# Altium schematic symbol library FC.SchLib: 18 symbols
Pins are listed as number, name and electrical type; pins without a type are passive.

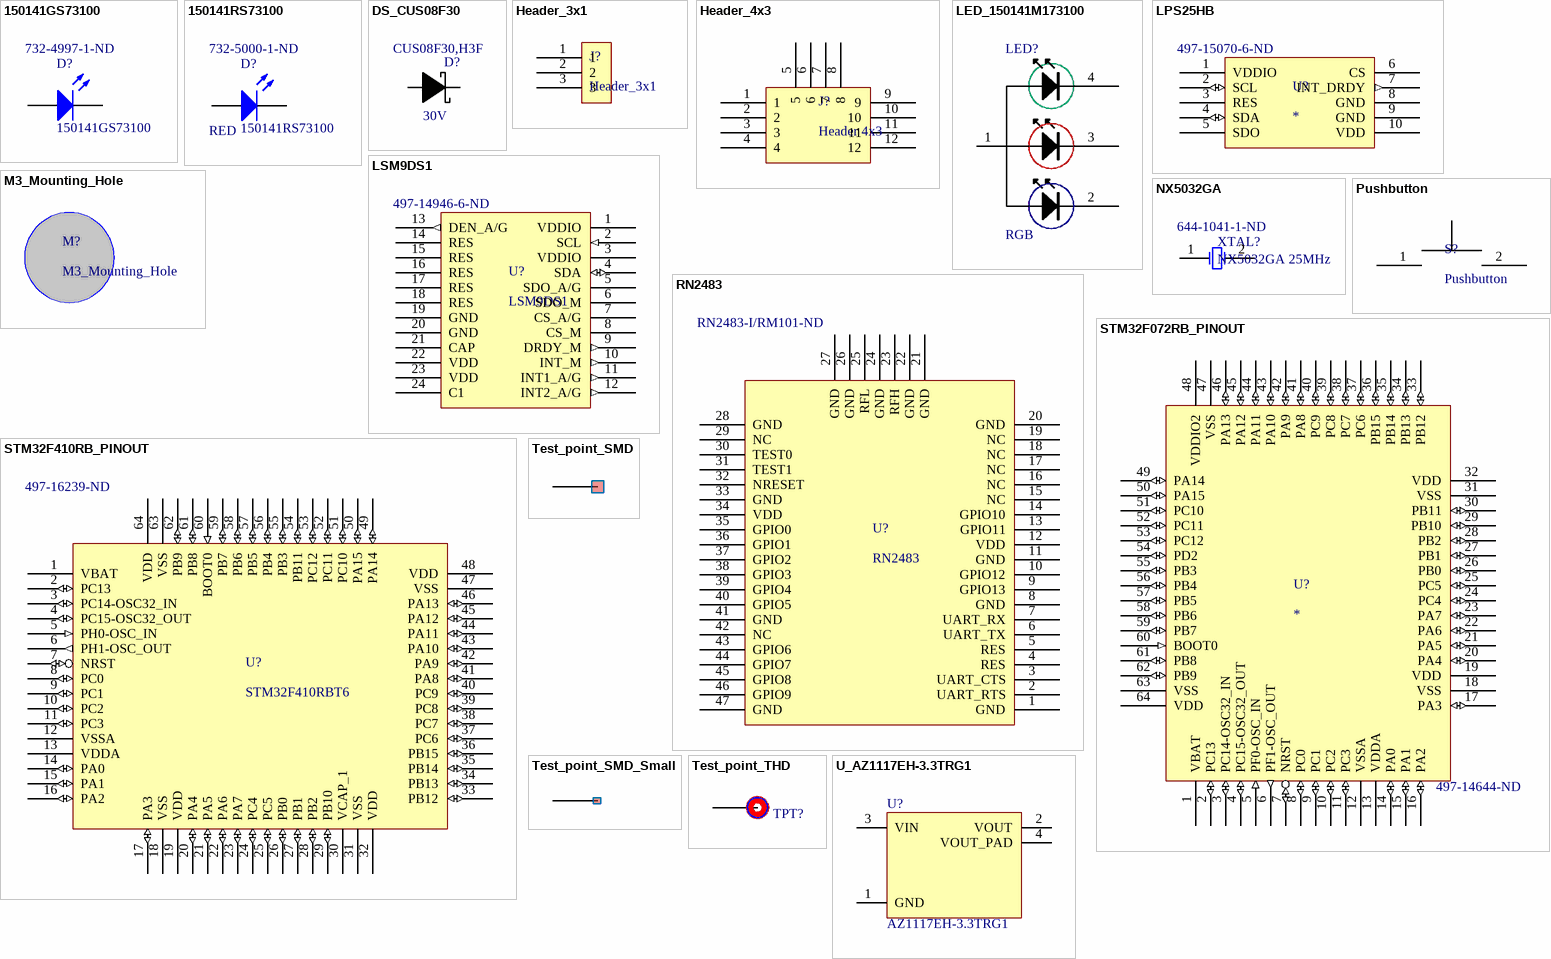
[diagram p0: symbols 150141GS73100 to U_AZ1117EH-3.3TRG1]

## 150141GS73100
designator D?  Supplier Part Number 1: 732-4997-1-ND
Typical GREEN LED; Manufacturer: Würth Elektronik (Wuerth Elektronik); Luminous Intensity: 1000; Viewing Angle: 120; Forward Voltage: 3.1; Lens Style: Round,Clear; Wavelength: 525; Forward Current: 30; Test Current: 20; Supplier 1: Digikey; Manufacturer Part Number: 150141GS73100; Stock 1: 572; Pricing 1: 1=0.17, 100=0.149, 500=0.113 (USD); Case/Package: 1411; Colour: Green; Case Code (Metric): 3528; Case Code (Imperial): 1411; Min Operating Temperature: -40; Max Operating Temperature: 85; Packaging: Cut Tape; Package Quantity: 2000; Dominant Wavelength: 525; Length: 3.5; Height: 1.9; Width: 2.8; REACH SVHC: Unknown; Lead Free: Lead Free; ComponentLink1URL: https://datasheet.ciiva.com/23843/150141gs73100-23843266.pdf; ComponentLink1Description: https://datasheet.ciiva.com/23843/150141gs73100-23843266.pdf; ComponentLink2URL: https://datasheet.ciiva.com/22656/1911484-22656997.pdf; ComponentLink2Description: https://datasheet.ciiva.com/22656/1911484-22656997.pdf; ComponentLink3URL: https://datasheet.ciiva.com/29563/150141gs73100-29563029.pdf; ComponentLink3Description: https://datasheet.ciiva.com/29563/150141gs73100-29563029.pdf; ComponentLink4URL: https://datasheet.ciiva.com/29563/150141gs73100-29563030.pdf; ComponentLink4Description: https://datasheet.ciiva.com/29563/150141gs73100-29563030.pdf; ComponentLink5URL: https://datasheet.ciiva.com/48430/150141gs73100-eng-tds-48430060.pdf; ComponentLink5Description: https://datasheet.ciiva.com/48430/150141gs73100-eng-tds-48430060.pdf; ComponentLink6URL: https://datasheet.ciiva.com/29278/759463-da-01-en-smd-topled-einf-gruen-150141gs73100-29278953.pdf; ComponentLink6Description: https://datasheet.ciiva.com/29278/759463-da-01-en-smd-topled-einf-gruen-150141gs73100-29278953.pdf
footprint 150141RS73100 (SMT LED; 1411)
pins: 1 A, 2 K

## 150141RS73100
designator D?  Colour: RED  Supplier Part Number 2: 732-5000-1-ND
Typical RED LED; Manufacturer: Würth Elektronik (Wuerth Elektronik); Luminous Intensity: 300; Viewing Angle: 120; Forward Voltage: 2; Lens Style: Round,Clear; Wavelength: 625; Forward Current: 30; Test Current: 20; Published: 8-Jun-2000; LatestRevisionDate: 17-Jul-2002; LatestRevisionNote: Re-released for DXP Platform.; PackageDocument: Feb-2002; PackageReference: 3.2X1.6X1.1; Publisher: Altium Limited; Supplier 1: Digi-Key; Supplier 2: Digikey; Manufacturer Part Number: 150141RS73100; Stock 2: 5335; Pricing 2: 1=0.17, 100=0.149, 500=0.113 (USD); Case/Package: 1411; Case Code (Metric): 3528; Case Code (Imperial): 1411; Min Operating Temperature: -40; Max Operating Temperature: 85; Package Quantity: 2000; Packaging: Tape and Reel; Dominant Wavelength: 625; Length: 3.5; Height: 1.9; Width: 2.8; REACH SVHC: Unknown; ComponentLink1URL: https://datasheet.ciiva.com/29562/150141rs73100-29562993.pdf; ComponentLink1Description: https://datasheet.ciiva.com/29562/150141rs73100-29562993.pdf; ComponentLink2URL: https://datasheet.ciiva.com/29563/150141rs73100-29563031.pdf; ComponentLink2Description: https://datasheet.ciiva.com/29563/150141rs73100-29563031.pdf; ComponentLink3URL: https://datasheet.ciiva.com/29563/150141rs73100-29563032.pdf; ComponentLink3Description: https://datasheet.ciiva.com/29563/150141rs73100-29563032.pdf; ComponentLink4URL: https://datasheet.ciiva.com/29278/759464-da-01-en-smd-topled-einf-rot-150141rs73100-29278947.pdf; ComponentLink4Description: https://datasheet.ciiva.com/29278/759464-da-01-en-smd-topled-einf-rot-150141rs73100-29278947.pdf
footprint 150141RS73100 (SMT LED; 1411)
pins: 1 A, 2 K

## DS_CUS08F30
designator D?, comment Voltage - DC Reverse (Vr) (Max): 30V  Manufacturer Part Number: CUS08F30,H3F  (hidden comment: Schottky Diode)
Diode Schottky 30V 800mA (DC) Surface Mount SOD-323; Manufacturer: Toshiba Semiconductor and Storage; Voltage - Forward (Vf) (Max) @ If: 220mV @ 10mA; Speed: Fast Recovery =< 500ns, > 200mA (Io); Current - Reverse Leakage @ Vr: 50µA @ 30V; Capacitance @ Vr, F: 170pF @ 0V, 1MHz; Packaging: Cut Tape (CT); Part Status: Active; Diode Type: Schottky; Current - Average Rectified (Io): 800mA; Reverse Recovery Time (trr): -; Mounting Type: Surface Mount; Package / Case: SC-76, SOD-323; Supplier Device Package: USC; Operating Temperature - Junction: 125°C (Max); ComponentLink1URL: https://toshiba.semicon-storage.com/info/docget.jsp?did=9019&prodName=CUS08F30; ComponentLink1Description: https://toshiba.semicon-storage.com/info/docget.jsp?did=9019&prodName=CUS08F30; Supplier 1: Digi-Key; Supplier Part Number 1: CUS08F30H3FCT-ND; RoHS: RoHS Compliant; Category: Discrete Semiconductor Products; Stock 1: 5288; Pricing 1: 1=0.49, 10=0.448, 25=0.3224, 100=0.2508, 250=0.15764, 500=0.13438, 1000=0.09138 (CAD)
footprint SOD323
pins: 1 CA "Cathode", 2 AN "Anode"

## Header_3x1
designator J?
footprint Header_3x1
pins: 1 (power), 2 (power), 3 (power)

## Header_4x3
designator J?, comment Header 4x3
footprint Header_4x3
pins: 1 (power), 2 (power), 3 (power), 4 (power), 5 (power), 6 (power), 7 (power), 8 (power), 9 (power), 10 (power), 11 (power), 12 (power)

## LED_150141M173100
designator LED?, comment RGB
Wurth RGB LED 1411 pkg; Manufacturer: Wurth Electronics Inc; Manufacturer Part Number: 150141M173100; Color: Red, Green, Blue (RGB); Lens Color: Colorless; Lens Transparency: Clear; Millicandela Rating: 270mcd Red, 950mcd Green, 230mcd Blue; Lens Style/Size: Round with Flat Top, 2.40mm; Voltage - Forward (Vf) (Typ): 2V Red, 3.2V Green, 3.2V Blue; Current - Test: 20mA Red, 20mA Green, 20mA Blue; Viewing Angle: 120°; Wavelength - Dominant: 625nm Red, 520nm Green, 470nm Blue; Wavelength - Peak: 635nm Red, 515nm Green, 465nm Blue; Supplier 1: Digi-Key; Supplier Part Number 1: 732-4998-1-ND; RoHS: RoHS Compliant; Category: Optoelectronics; Stock 1: 986; Pricing 1: 1=0.95, 50=0.8294, 100=0.7583, 500=0.68724, 1000=0.63984 (CAD); Packaging: Cut Tape (CT); Mounting Type: Surface Mount; Features: -; Package / Case: 1411 (3528 Metric); Supplier Device Package: 3528; Size / Dimension: 3.50mm L x 2.80mm W; Height (Max): 2.10mm; ComponentLink1URL: http://katalog.we-online.de/led/datasheet/150141M173100.pdf; ComponentLink1Description: http://katalog.we-online.de/led/datasheet/150141M173100.pdf
footprint 1411LED (RGB LED 4 leads)
pins: 1, 2, 3, 4

## LPS25HB
designator U?  Supplier Part Number 1: 497-15070-6-ND
Manufacturer: STMicroelectronics; Manufacturer Part Number: LPS25HBTR; Operating Pressure: 18.27; Port Style: No Port; Max Pressure: 290.08; Min Supply Voltage: 1.7; Max Supply Voltage: 3.6; Supplier 1: Digikey; Stock 1: 0; Pricing 1: 1=3.25, 10=2.917, 100=2.3901 (USD); Mount: Surface Mount; Number of Pins: 10; Contact Plating: Nickel,Gold; Min Operating Temperature: -30; Max Operating Temperature: 105; Termination: Solder; REACH SVHC: No SVHC; Lead Free: Lead Free; ComponentLink1URL: http://www.farnell.com/datasheets/1992925.pdf; ComponentLink1Description: http://www.farnell.com/datasheets/1992925.pdf; ComponentLink2URL: http://www.st.com/st-web-ui/static/active/en/resource/technical/document/datasheet/DM00141379.pdf; ComponentLink2Description: http://www.st.com/st-web-ui/static/active/en/resource/technical/document/datasheet/DM00141379.pdf
footprint HLGA-10L - narrow
pins: 1 VDDIO (power), 2 SCL (io), 3 RES (power), 4 SDA (io), 5 SDO (power), 6 CS (power), 7 INT_DRDY (out), 8 GND (power), 9 GND (power), 10 VDD (power)

## LSM9DS1
designator U?  Supplier Part Number 1: 497-14946-6-ND
Manufacturer: STMicroelectronics; Manufacturer Part Number: LSM9DS1TR; Min Supply Voltage: 1.9; Max Supply Voltage: 3.6; Supplier 1: Digikey; Stock 1: 6141; Pricing 1: 1=6.4, 10=5.751, 100=4.7119 (USD); Case/Package: LGA; Number of Pins: 24; Min Operating Temperature: -40; Max Operating Temperature: 85; Packaging: Cut Tape; REACH SVHC: No SVHC; Lead Free: Lead Free; ComponentLink1URL: http://www.farnell.com/datasheets/2028150.pdf; ComponentLink1Description: http://www.farnell.com/datasheets/2028150.pdf
footprint LGA-24 - NARROW - Long Pads
pins: 1 VDDIO (power), 2 SCL (in), 3 VDDIO (power), 4 SDA (io), 5 SDO_A/G (power), 6 SDO_M (power), 7 CS_A/G (power), 8 CS_M (power), 9 DRDY_M (out), 10 INT_M (out), 11 INT1_A/G (out), 12 INT2_A/G (out), 13 DEN_A/G (out), 14 RES (power), 15 RES (power), 16 RES (power), 17 RES (power), 18 RES (power), 19 GND (power), 20 GND (power), 21 CAP (power), 22 VDD (power), 23 VDD (power), 24 C1 (power)

## M3_Mounting_Hole
designator M?
footprint M3_Mounting_Hole

## NX5032GA
designator XTAL?, comment NX5032GA 25MHz  Supplier Part Number 1: 644-1041-1-ND
NX5032GA; Manufacturer: Nihon Dempa Kogyo (NDK); Manufacturer Part Number: NX5032GA-25.000000MHZ-LN-CD-1; Frequency: 25; Frequency Tolerance: 50; Load Capacitance: 8; ESR (Equivalent Series Resistance): 70; Supplier 1: Digikey; Stock 1: 128038; Pricing 1: 1=0.66, 10=0.55, 50=0.495, 100=0.44, 500=0.418 (USD); Case/Package: SMD/SMT; Number of Pins: 2; Min Operating Temperature: -10; Max Operating Temperature: 70; Packaging: Tape and Reel; Frequency Stability: 50; Package Quantity: 1000; Length: 0.197; Height: 0.059; Width: 0.126; ComponentLink1URL: https://datasheet.ciiva.com/856/nx5032ga-856797.pdf; ComponentLink1Description: https://datasheet.ciiva.com/856/nx5032ga-856797.pdf; ComponentLink2URL: https://datasheet.ciiva.com/856/nx5032ga-856798.pdf; ComponentLink2Description: https://datasheet.ciiva.com/856/nx5032ga-856798.pdf; ComponentLink3URL: https://datasheet.ciiva.com/856/nx5032ga-856799.pdf; ComponentLink3Description: https://datasheet.ciiva.com/856/nx5032ga-856799.pdf
footprint NX5032GA (NX5032GA Crystal Oscillator)
pins: 1 OSC1, 2 OSC2

## Pushbutton
designator S?
footprint TactileSwitch
pins: 1 (power), 2 (power)

## RN2483
designator U?  Supplier Part Number 1: RN2483-I/RM101-ND
Manufacturer: Microchip Technology; Manufacturer Part Number: RN2483-I/RM101; Frequency: 868; Data Rate: 300; Min Supply Voltage: 2.1; Max Supply Voltage: 3.6; Nominal Supply Current: 38.9; Sensitivity: -146; Interface: I2C,SPI,UART; Current - Receiving: 14.3; Current - Transmitting: 39; Supplier 1: Digikey; Stock 1: 692; Pricing 1: 1=14.7, 25=13.4724, 100=13.0553 (USD); Case/Package: Module; Min Operating Temperature: -40; Max Operating Temperature: 85; Max Frequency: 868; Packaging: Tray; REACH SVHC: No SVHC; Lead Free: Lead Free; ComponentLink1URL: http://www.farnell.com/datasheets/1947946.pdf; ComponentLink1Description: http://www.farnell.com/datasheets/1947946.pdf; ComponentLink2URL: http://www.farnell.com/datasheets/2140371.pdf; ComponentLink2Description: http://www.farnell.com/datasheets/2140371.pdf
footprint RN2483
pins: 1 GND (power), 2 UART_RTS (power), 3 UART_CTS (power), 4 RES (power), 5 RES (power), 6 UART_TX (power), 7 UART_RX (power), 8 GND (power), 9 GPIO13 (power), 10 GPIO12 (power), 11 GND (power), 12 VDD (power), 13 GPIO11 (power), 14 GPIO10 (power), 15 NC (power), 16 NC (power), 17 NC (power), 18 NC (power), 19 NC (power), 20 GND (power), 21 GND (power), 22 GND (power), 23 RFH (power), 24 GND (power), 25 RFL (power), 26 GND (power), 27 GND (power), 28 GND (power), 29 NC (power), 30 TEST0 (power), 31 TEST1 (power), 32 NRESET (power), 33 GND (power), 34 VDD (power), 35 GPIO0 (power), 36 GPIO1 (power), 37 GPIO2 (power), 38 GPIO3 (power), 39 GPIO4 (power), 40 GPIO5 (power), 41 GND (power), 42 NC (power), 43 GPIO6 (power), 44 GPIO7 (power), 45 GPIO8 (power), 46 GPIO9 (power), 47 GND (power)

## STM32F072RB_PINOUT
designator U?  Supplier Part Number 1: 497-14644-ND
64-LQFP - Pinout Representation; Supplier 1: Digi-Key
footprint LQFP-64 10x10mm (LQFP-64 10x10mm 0.5mm pitch)
pins: 1 VBAT (power) "Backup power supply", 2 PC13 (io) "WKUP2, RTC_TAMP1, RTC_TS, RTC_OUT", 3 PC14-OSC32_IN (io) "OSC32_IN", 4 PC15-OSC32_OUT (io) "OSC32_OUT", 5 PF0-OSC_IN (in) "OSC_IN", 6 PF1-OSC_OUT (out) "OSC_OUT", 7 NRST (io) "Device reset input / internal reset output (active low)", 8 PC0 (io) "EVENTOUT, ADC_IN10", 9 PC1 (io) "EVENTOUT, ADC_IN11", 10 PC2 (io) "SPI2_MISO, I2S2_MCK,  EVENTOUT, ADC_IN12", 11 PC3 (io) "SPI2_MOSI, I2S2_SD,  EVENTOUT, ADC_IN13", 12 VSSA (power) "Analog Ground", 13 VDDA (power) "Analog Power Supply", 14 PA0 (io) "USART2_CTS, TIM2_CH1_ETR, TSC_G1_IO1, USART4_TX, RTC_ TAMP2, WKUP1, COMP1_OUT, ADC_IN0, COMP1_INM6", 15 PA1 (io) "USART2_RTS, TIM2_CH2,  TIM15_CH1N, TSC_G1_IO2, USART4_RX, EVENTOUT, ADC_IN1, COMP1_INP", 16 PA2 (io) "USART2_TX, TIM2_CH3, TIM15_CH1, TSC_G1_IO3, ADC_IN2, COMP2_OUT, COMP2_INM6, WKUP4", 17 PA3 (io) "USART2_RX, TIM2_CH4, TIM15_CH2, TSC_G1_IO4, ADC_IN3, COMP2_INP", 18 VSS (power) "Ground", 19 VDD (power) "Digital Power Supply", 20 PA4 (io) "SPI1_NSS, I2S1_WS, TIM14_CH1, TSC_G2_IO1, USART2_CK, COMP1_INM4, COMP2_INM4, ADC_IN4, DAC_OUT1", 21 PA5 (io) "SPI1_SCK, I2S1_CK, CEC, TIM2_CH1_ETR, TSC_G2_IO2, COMP1_INM5, COMP2_INM5, ADC_IN5, DAC_OUT2", 22 PA6 (io) "SPI1_MISO, I2S1_MCK, TIM3_CH1, TIM1_BKIN, TIM16_CH1, COMP1_OUT, TSC_G2_IO3, EVENTOUT, USART3_CTS, ADC_IN6", 23 PA7 (io) "SPI1_MOSI, I2S1_SD, TIM3_CH2, TIM14_CH1, TIM1_CH1N, TIM17_CH1, COMP2_OUT, TSC_G2_IO4, EVENTOUT, ADC_IN7", 24 PC4 (io) "EVENTOUT, USART3_TX, ADC_IN14", 25 PC5 (io) "TSC_G3_IO1, USART3_RX, ADC_IN15, WKUP5", 26 PB0 (io) "TIM3_CH3, TIM1_CH2N, TSC_G3_IO2, EVENTOUT, USART3_CK, ADC_IN8", 27 PB1 (io) "TIM3_CH4, USART3_RTS, TIM14_CH1, TIM1_CH3N, TSC_G3_IO3, ADC_IN9", 28 PB2 (io) "TSC_G3_IO4", 29 PB10 (io) "SPI2_SCK, I2C2_SCL, USART3_TX, CEC, TSC_SYNC, TIM2_CH3", 30 PB11 (io) "USART3_RX, TIM2_CH4, EVENTOUT, TSC_G6_IO1, I2C2_SDA", 31 VSS (power) "Ground", 32 VDD (power) "Digital Power Supply", 33 PB12 (io) "TIM1_BKIN, TIM15_BKIN, SPI2_NSS, I2S2_WS, USART3_CK, TSC_G6_IO2, EVENTOUT", 34 PB13 (io) "SPI2_SCK, I2S2_CK, I2C2_SCL, USART3_CTS, TIM1_CH1N, TSC_G6_IO3", 35 PB14 (io) "SPI2_MISO, I2S2_MCK, I2C2_SDA, USART3_RTS, TIM1_CH2N, TIM15_CH1, TSC_G6_IO4", 36 PB15 (io) "SPI2_MOSI, I2S2_SD, TIM1_CH3N, TIM15_CH1N, TIM15_CH2", 37 PC6 (io) "TIM3_CH1", 38 PC7 (io) "TIM3_CH2", 39 PC8 (io) "TIM3_CH3", 40 PC9 (io) "TIM3_CH4", 41 PA8 (io) "USART1_CK, TIM1_CH1, EVENTOUT, MCO, CRS_SYNC", 42 PA9 (io) "USART1_TX, TIM1_CH2, TIM15_BKIN, TSC_G4_IO1", 43 PA10 (io) "USART1_RX, TIM1_CH3, TIM17_BKIN, TSC_G4_IO2", 44 PA11 (io) "CAN_RX, USART1_CTS, TIM1_CH4, COMP1_OUT, TSC_G4_IO3, EVENTOUT, USB_DM", 45 PA12 (io) "CAN_TX, USART1_RTS, TIM1_ETR, COMP2_OUT, TSC_G4_IO4, EVENTOUT, USB_DP", 46 PA13 (io) "IR_OUT, SWDIO, USB_NOE", 47 VSS (power) "Ground", 48 VDDIO2 (power) "Digital Power Supply", 49 PA14 (io) "USART2_TX, SWCLK", 50 PA15 (io) "SPI1_NSS, I2S1_WS, USART2_RX, USART4_RTS, TIM2_CH1_ETR, EVENTOUT", 51 PC10 (io) "USART3_TX, USART4_TX", 52 PC11 (io) "USART3_RX, USART4_RX", 53 PC12 (io) "USART3_CK,  USART4_CK", 54 PD2 (io) "USART3_RTS, TIM3_ETR", 55 PB3 (io) "SPI1_SCK, I2S1_CK, TIM2_CH2, TSC_G5_IO1, EVENTOUT", 56 PB4 (io) "SPI1_MISO, I2S1_MCK, TIM17_BKIN, TIM3_CH1, TSC_G5_IO2, EVENTOUT", 57 PB5 (io) "SPI1_MOSI, I2S1_SD, I2C1_SMBA, TIM16_BKIN, TIM3_CH2, WKUP6", 58 PB6 (io) "I2C1_SCL, USART1_TX, TIM16_CH1N, TSC_G5_I03", 59 PB7 (io) "I2C1_SDA, USART1_RX, USART4_CTS, TIM17_CH1N, TSC_G5_IO4", 60 BOOT0 (in) "Boot Memory Selection", 61 PB8 (io) "I2C1_SCL, CEC, TIM16_CH1, TSC_SYNC, CAN_RX", 62 PB9 (io) "SPI2_NSS, I2S2_WS, I2C1_SDA, IR_OUT, TIM17_CH1, EVENTOUT, CAN_TX", 63 VSS "Ground", 64 VDD "Digital Power Supply"

## STM32F410RB_PINOUT
designator U?, comment STM32F410RBT6  Supplier Part Number 1: 497-16239-ND
64-LQFP - Pinout Representation; Manufacturer: STMicroelectronics; Frequency: 100; Interface: I2C,SPI,IrDA,UART,USART,LIN; Number of I/Os: 50; Oscillator Type: Internal; RAM Size: 32; Min Supply Voltage: 1.7; Max Supply Voltage: 3.6; Memory Type: FLASH; Memory Size: 128; Peripherals: Brown-out Detect/Reset,POR,PWM,WDT,DMA; Manufacturer Part Number: STM32F410RBT6; Pricing 2: 1=4.4, 10=3.951, 100=3.237, 500=2.7556, 1000=2.324 (USD); Case/Package: LQFP; Number of Pins: 64; Min Operating Temperature: -40; Max Operating Temperature: 85; Packaging: Tray; REACH SVHC: No SVHC; Lead Free: Lead Free; ComponentLink1URL: http://www.farnell.com/datasheets/2006536.pdf; ComponentLink1Description: http://www.farnell.com/datasheets/2006536.pdf; Supplier 1: Digikey
footprint LQFP-64 10x10mm (LQFP-64 10x10mm 0.5mm pitch)
pins: 1 VBAT (power) "Backup power supply", 2 PC13 (io) "WKUP2, RTC_TAMP1, RTC_TS, RTC_OUT", 3 PC14-OSC32_IN (io) "OSC32_IN", 4 PC15-OSC32_OUT (io) "OSC32_OUT", 5 PH0-OSC_IN (in) "OSC_IN", 6 PH1-OSC_OUT (out) "OSC_OUT", 7 NRST (io) "Device reset input / internal reset output (active low)", 8 PC0 (io) "EVENTOUT, ADC_IN10", 9 PC1 (io) "EVENTOUT, ADC_IN11", 10 PC2 (io) "SPI2_MISO, I2S2_MCK,  EVENTOUT, ADC_IN12", 11 PC3 (io) "SPI2_MOSI, I2S2_SD,  EVENTOUT, ADC_IN13", 12 VSSA (power) "Analog Ground", 13 VDDA (power) "Analog Power Supply", 14 PA0 (io) "USART2_CTS, TIM2_CH1_ETR, TSC_G1_IO1, USART4_TX, RTC_ TAMP2, WKUP1, COMP1_OUT, ADC_IN0, COMP1_INM6", 15 PA1 (io) "USART2_RTS, TIM2_CH2,  TIM15_CH1N, TSC_G1_IO2, USART4_RX, EVENTOUT, ADC_IN1, COMP1_INP", 16 PA2 (io) "USART2_TX, TIM2_CH3, TIM15_CH1, TSC_G1_IO3, ADC_IN2, COMP2_OUT, COMP2_INM6, WKUP4", 17 PA3 (io) "USART2_RX, TIM2_CH4, TIM15_CH2, TSC_G1_IO4, ADC_IN3, COMP2_INP", 18 VSS (power) "Ground", 19 VDD (power) "Digital Power Supply", 20 PA4 (io) "SPI1_NSS, I2S1_WS, TIM14_CH1, TSC_G2_IO1, USART2_CK, COMP1_INM4, COMP2_INM4, ADC_IN4, DAC_OUT1", 21 PA5 (io) "SPI1_SCK, I2S1_CK, CEC, TIM2_CH1_ETR, TSC_G2_IO2, COMP1_INM5, COMP2_INM5, ADC_IN5, DAC_OUT2", 22 PA6 (io) "SPI1_MISO, I2S1_MCK, TIM3_CH1, TIM1_BKIN, TIM16_CH1, COMP1_OUT, TSC_G2_IO3, EVENTOUT, USART3_CTS, ADC_IN6", 23 PA7 (io) "SPI1_MOSI, I2S1_SD, TIM3_CH2, TIM14_CH1, TIM1_CH1N, TIM17_CH1, COMP2_OUT, TSC_G2_IO4, EVENTOUT, ADC_IN7", 24 PC4 (io) "EVENTOUT, USART3_TX, ADC_IN14", 25 PC5 (io) "TSC_G3_IO1, USART3_RX, ADC_IN15, WKUP5", 26 PB0 (io) "TIM3_CH3, TIM1_CH2N, TSC_G3_IO2, EVENTOUT, USART3_CK, ADC_IN8", 27 PB1 (io) "TIM3_CH4, USART3_RTS, TIM14_CH1, TIM1_CH3N, TSC_G3_IO3, ADC_IN9", 28 PB2 (io) "TSC_G3_IO4", 29 PB10 (io) "SPI2_SCK, I2C2_SCL, USART3_TX, CEC, TSC_SYNC, TIM2_CH3", 30 VCAP_1 (power) "USART3_RX, TIM2_CH4, EVENTOUT, TSC_G6_IO1, I2C2_SDA", 31 VSS (power) "Ground", 32 VDD (power) "Digital Power Supply", 33 PB12 (io) "TIM1_BKIN, TIM15_BKIN, SPI2_NSS, I2S2_WS, USART3_CK, TSC_G6_IO2, EVENTOUT", 34 PB13 (io) "SPI2_SCK, I2S2_CK, I2C2_SCL, USART3_CTS, TIM1_CH1N, TSC_G6_IO3", 35 PB14 (io) "SPI2_MISO, I2S2_MCK, I2C2_SDA, USART3_RTS, TIM1_CH2N, TIM15_CH1, TSC_G6_IO4", 36 PB15 (io) "SPI2_MOSI, I2S2_SD, TIM1_CH3N, TIM15_CH1N, TIM15_CH2", 37 PC6 (io) "TIM3_CH1", 38 PC7 (io) "TIM3_CH2", 39 PC8 (io) "TIM3_CH3", 40 PC9 (io) "TIM3_CH4", 41 PA8 (io) "USART1_CK, TIM1_CH1, EVENTOUT, MCO, CRS_SYNC", 42 PA9 (io) "USART1_TX, TIM1_CH2, TIM15_BKIN, TSC_G4_IO1", 43 PA10 (io) "USART1_RX, TIM1_CH3, TIM17_BKIN, TSC_G4_IO2", 44 PA11 (io) "CAN_RX, USART1_CTS, TIM1_CH4, COMP1_OUT, TSC_G4_IO3, EVENTOUT, USB_DM", 45 PA12 (io) "CAN_TX, USART1_RTS, TIM1_ETR, COMP2_OUT, TSC_G4_IO4, EVENTOUT, USB_DP", 46 PA13 (io) "IR_OUT, SWDIO, USB_NOE", 47 VSS (power) "Ground", 48 VDD (power) "Digital Power Supply", 49 PA14 (io) "USART2_TX, SWCLK", 50 PA15 (io) "SPI1_NSS, I2S1_WS, USART2_RX, USART4_RTS, TIM2_CH1_ETR, EVENTOUT", 51 PC10 (io) "USART3_TX, USART4_TX", 52 PC11 (io) "USART3_RX, USART4_RX", 53 PC12 (io) "USART3_CK,  USART4_CK", 54 PB11 (io) "USART3_RTS, TIM3_ETR", 55 PB3 (io) "SPI1_SCK, I2S1_CK, TIM2_CH2, TSC_G5_IO1, EVENTOUT", 56 PB4 (io) "SPI1_MISO, I2S1_MCK, TIM17_BKIN, TIM3_CH1, TSC_G5_IO2, EVENTOUT", 57 PB5 (io) "SPI1_MOSI, I2S1_SD, I2C1_SMBA, TIM16_BKIN, TIM3_CH2, WKUP6", 58 PB6 (io) "I2C1_SCL, USART1_TX, TIM16_CH1N, TSC_G5_I03", 59 PB7 (io) "I2C1_SDA, USART1_RX, USART4_CTS, TIM17_CH1N, TSC_G5_IO4", 60 BOOT0 (in) "Boot Memory Selection", 61 PB8 (io) "I2C1_SCL, CEC, TIM16_CH1, TSC_SYNC, CAN_RX", 62 PB9 (io) "SPI2_NSS, I2S2_WS, I2C1_SDA, IR_OUT, TIM17_CH1, EVENTOUT, CAN_TX", 63 VSS "Ground", 64 VDD "Digital Power Supply"

## Test_point_SMD
designator TPS?
Test Point SMD
footprint TEST_POINT_SMD
pins: 1 (hiz)

## Test_point_SMD_Small
designator TPS?
Test Point SMD Small
footprint TEST_POINT_SMD_SMALL
pins: 1 (hiz)

## Test_point_THD
designator TPT?
Test Point THD
footprint Test_Point_THD (Test Point)
pins: 1 (hiz)

## U_AZ1117EH-3.3TRG1
designator U?  Manufacturer Part Number: AZ1117EH-3.3TRG1  (hidden comment: U_AZ1117EH-3.3TRG1)
IC LDO 3.3V 1A; Manufacturer: Diodes Incorporated; Regulator Topology: Positive Fixed; Voltage - Dropout (Typical): 1.1V @ 1A; Number of Regulators: 1; Voltage - Input: Up to 13V; Supplier 1: Digi-Key; Supplier Part Number 1: AZ1117EH-3.3TRG1DICT-ND; RoHS: RoHS Compliant; Category: Integrated Circuits (ICs); Stock 1: 13427; Pricing: 1=0.61, 10=0.456, 100=0.2578, 500=0.1709, 1000=0.13108 (CAD); Packaging: Cut Tape (CT); Voltage - Output: 3.3V; Current - Output: 1A; Current - Limit (Min): -; Operating Temperature: -40°C ~ 125°C; Mounting Type: Surface Mount; Package / Case: TO-261-4, TO-261AA; Supplier Device Package: SOT-223; ComponentLink1URL: http://www.diodes.com/_files/datasheets/AZ1117E.pdf; ComponentLink1Description: http://www.diodes.com/_files/datasheets/AZ1117E.pdf
footprint SOT223 (For ZLDO1117G33TA, 3-leads 90mil pitch with tab)
pins: 1 GND (power), 2 VOUT (power), 3 VIN (power), 4 VOUT_PAD (power)